# Altium schematic symbol library WA-SMSI.SchLib: 1 symbol
Pins are listed as number, name and electrical type; pins without a type are passive.

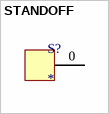
[diagram p0: symbol STANDOFF]

## STANDOFF
designator S?
ROUND STANDOFF M2X0.4 STEEL
pins: 0 (power)